# EAGLE library part NHD-3.12-25664UCY2 (library OPNpool)
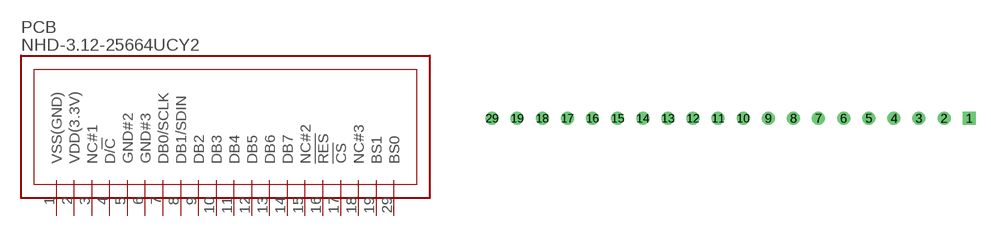
[diagram p10: symbol with the pads of NHD-3.12-25664UCY2; footprint NHD-3.12-25664UCY2]

Designator prefix PCB

## NHD-3.12-25664UCY2  [NHD-3.12-25664UCY2]
1  VSS(GND)
2  VDD(3.3V)
3  NC#1
4  D/!C
5  GND#2
6  GND#3
7  DB0/SCLK
8  DB1/SDIN
9  DB2
10  DB3
11  DB4
12  DB5
13  DB6
14  DB7
15  NC#2
16  !RES
17  !CS
18  NC#3
19  BS1
29  BS0

## Footprint NHD-3.12-25664UCY2 (pad centres in mm)
drill 0.8 square: 1 0,0
drill 0.8: 2 -2.54,0; 3 -5.08,0; 4 -7.62,0; 5 -10.16,0; 6 -12.7,0; 7 -15.24,0; 8 -17.78,0; 9 -20.32,0; 10 -22.86,0; 11 -25.4,0; 12 -27.94,0; 13 -30.48,0; 14 -33.02,0; 15 -35.56,0; 16 -38.1,0; 17 -40.64,0; 18 -43.18,0; 19 -45.72,0; 29 -48.26,0